# Altium footprint library 10A6.PcbLib: 1 footprints
Each footprint in its own frame and in the unit in brackets; x right, y up, seen from the top. Pads: shape width x height; smd on the part's side, far side on the other; paste and mask are expansions set on the pad; w line width, h text height; cw(c..) or ccw(c..) is an arc to the next point about the centre after c.
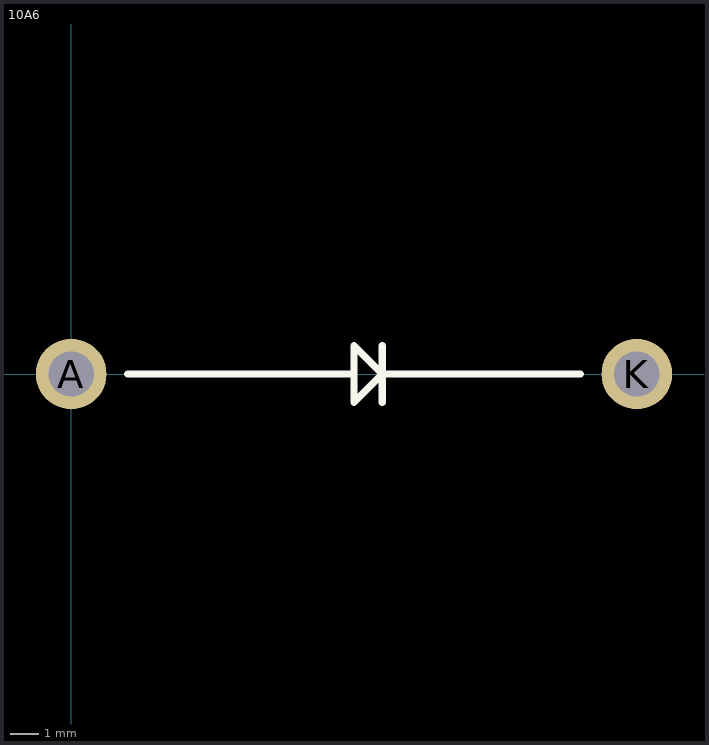
[diagram p0: the footprint, top view; thin cyan lines are the x and y axes]

## 10A6 [mm]
pads (2):
  round 2.5 hole 1.6: A(0,0) K(20,0)
Top Overlay:
  lines w0.254: 2,0 10,0 ; 11,-1 11,1 ; 18,0 11,0 ; 10,0 10,1 11,0 ; 10,0 10,-1 11,0 ; 11,0 11,0